# Altium footprint library CAPC2828X114.PcbLib: 3 footprints
Each footprint in its own frame and in the unit in brackets; x right, y up, seen from the top. Pads: shape width x height; smd on the part's side, far side on the other; paste and mask are expansions set on the pad; w line width, h text height; cw(c..) or ccw(c..) is an arc to the next point about the centre after c.
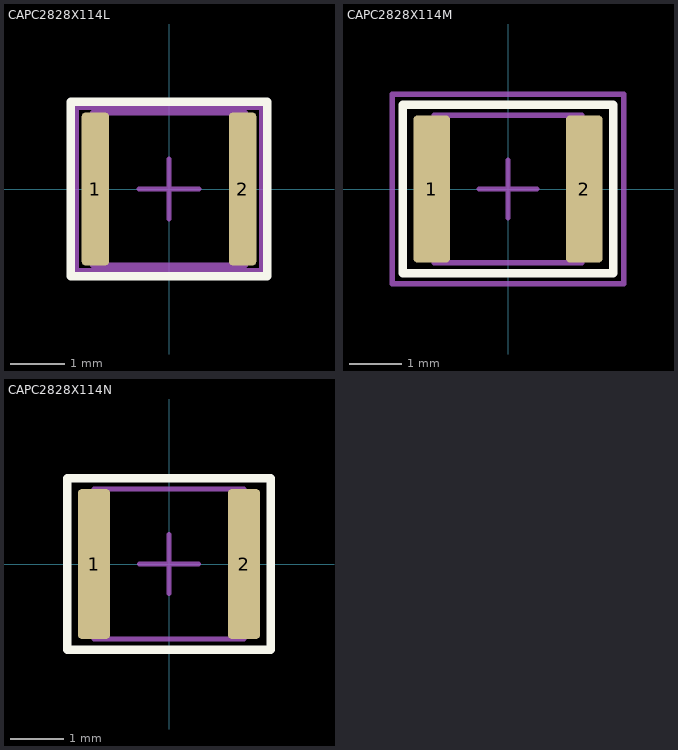
[diagram p0: the footprints below, top view; thin cyan lines are the x and y axes]

## CAPC2828X114L [mm] "Capacitors, Chip, Non-polarized"
height 1.35
pads (2):
  rrect25% 0.5x2.8 smd: 1(-1.35,0) 2(1.35,0)
Top Overlay:
  lines w0.16: -1.8,-1.6 1.8,-1.6 1.8,1.6 -1.8,1.6 -1.8,-1.6
Top Component Center:
  lines w0.1: -0.55,0 0.55,0 ; 0,-0.55 0,0.55
Top Courtyard:
  lines w0.1: -1.7,-1.5 1.7,-1.5 1.7,1.5 -1.7,1.5 -1.7,-1.5
Top Assembly:
  lines w0.1: -1.4,-1.4 1.4,-1.4 1.4,1.4 -1.4,1.4 -1.4,-1.4
  text ".Designator" at 0,0 h1
3D body "CAPC2828X114L.STEP": height 1.15, standoff 0, extent -1.4,-1.4 1.4,1.4

## CAPC2828X114M [mm] "Capacitors, Chip, Non-polarized"
height 1.35
pads (2):
  rrect25% 0.7x2.8 smd: 1(-1.45,0) 2(1.45,0)
Top Overlay:
  lines w0.16: -2,-1.6 2,-1.6 2,1.6 -2,1.6 -2,-1.6
Top Component Center:
  lines w0.1: -0.55,0 0.55,0 ; 0,-0.55 0,0.55
Top Courtyard:
  lines w0.1: -2.2,-1.8 2.2,-1.8 2.2,1.8 -2.2,1.8 -2.2,-1.8
Top Assembly:
  lines w0.1: -1.4,-1.4 1.4,-1.4 1.4,1.4 -1.4,1.4 -1.4,-1.4
  text ".Designator" at 0,0 h1
3D body "CAPC2828X114M.STEP": height 1.15, standoff 0, extent -1.4,-1.4 1.4,1.4

## CAPC2828X114N [mm] "Capacitors, Chip, Non-polarized"
height 1.35
pads (2):
  rrect25% 0.6x2.8 smd: 1(-1.4,0) 2(1.4,0)
Top Overlay:
  lines w0.16: -1.9,-1.6 1.9,-1.6 1.9,1.6 -1.9,1.6 -1.9,-1.6
Top Component Center:
  lines w0.1: -0.55,0 0.55,0 ; 0,-0.55 0,0.55
Top Courtyard:
  lines w0.1: -1.9,-1.6 1.9,-1.6 1.9,1.6 -1.9,1.6 -1.9,-1.6
Top Assembly:
  lines w0.1: -1.4,-1.4 1.4,-1.4 1.4,1.4 -1.4,1.4 -1.4,-1.4
  text ".Designator" at 0,0 h1
3D body "CAPC2828X114N.STEP": height 1.15, standoff 0, extent -1.4,-1.4 1.4,1.4